# EAGLE library part OSTTE090104 (library TJ)
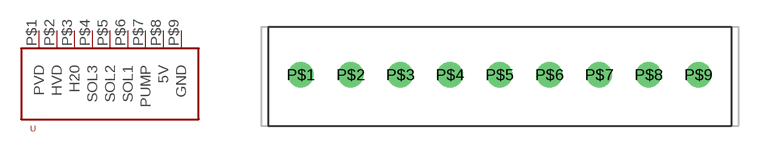
[diagram p2: symbol with the pads of OSTTE090104; footprint OSTTE090104]

Designator prefix -

## OSTTE090104  [OSTTE090104]
P$1  PVD  in
P$2  HVD  in
P$3  H20  out
P$4  SOL3  out
P$5  SOL2  out
P$6  SOL1  out
P$7  PUMP  out
P$8  5V  pwr
P$9  GND  pwr

## Footprint OSTTE090104 (pad centres in mm)
drill 1.2: P$1 0,0; P$2 3.5,0; P$3 7,0; P$4 10.5,0; P$5 14,0; P$6 17.5,0; P$7 21,0; P$8 24.5,0; P$9 28,0